# Altium schematic symbol library ACT45B-101-2P-TL003.SchLib: 1 symbol
Pins are listed as number, name and electrical type; pins without a type are passive.

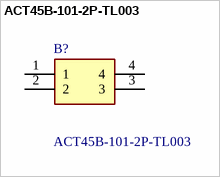
[diagram p0: symbol ACT45B-101-2P-TL003]

## ACT45B-101-2P-TL003
designator B?
Common Mode Filters / Chokes, |Z|=5800 at 10MHz, L x W x T :; Manufacturer_Name: TDK; Geometry.Height: 3mm; Mouser Part Number: 810-ACT45B1012PTL003; Mouser Price/Stock: https://www.mouser.co.uk/ProductDetail/TDK/ACT45B-101-2P-TL003?qs=SKgu1TwNDxoLFWvwfqJuJA%3D%3D; Manufacturer_Part_Number: ACT45B-101-2P-TL003; Datasheet Link: https://product.tdk.com/system/files/dam/doc/product/emc/emc/cmf_cmc/catalog/cmf_automotive_signal_act45b_en.pdf
footprint ACT45B1012PTL003
pins: 1, 2, 3, 4